# Altium schematic symbol library STM8S003FxP.Schlib: 1 symbol
Pins are listed as number, name and electrical type; pins without a type are passive.

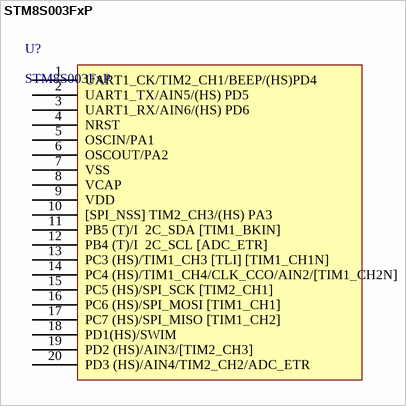
[diagram p0: symbol STM8S003FxP]

## STM8S003FxP
designator U?
MCU
pins: 1 UART1_CK/TIM2_CH1/BEEP/(HS)PD4, 2 UART1_TX/AIN5/(HS) PD5, 3 UART1_RX/AIN6/(HS) PD6, 4 NRST, 5 OSCIN/PA1, 6 OSCOUT/PA2, 7 VSS, 8 VCAP, 9 VDD, 10 [SPI_NSS] TIM2_CH3/(HS) PA3, 11 PB5 (T)/I  2C_SDA [TIM1_BKIN], 12 PB4 (T)/I  2C_SCL [ADC_ETR], 13 PC3 (HS)/TIM1_CH3 [TLI] [TIM1_CH1N] , 14 PC4 (HS)/TIM1_CH4/CLK_CCO/AIN2/[TIM1_CH2N] , 15 PC5 (HS)/SPI_SCK [TIM2_CH1] , 16 PC6 (HS)/SPI_MOSI [TIM1_CH1] , 17 PC7 (HS)/SPI_MISO [TIM1_CH2] , 18 PD1(HS)/SWIM, 19 PD2 (HS)/AIN3/[TIM2_CH3], 20 PD3 (HS)/AIN4/TIM2_CH2/ADC_ETR